# Altium footprint library Footprint_Module_for_Nokia_LCD_5110.PcbLib: 1 footprints
Each footprint in its own frame and in the unit in brackets; x right, y up, seen from the top. Pads: shape width x height; smd on the part's side, far side on the other; paste and mask are expansions set on the pad; w line width, h text height; cw(c..) or ccw(c..) is an arc to the next point about the centre after c.
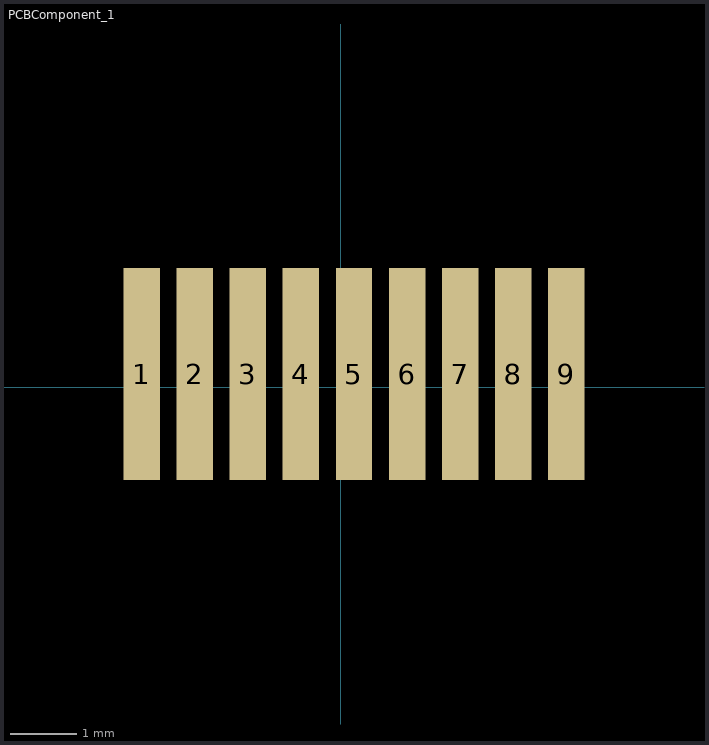
[diagram p0: the footprint, top view; thin cyan lines are the x and y axes]

## PCBComponent_1 [mm]
pads (9):
  rect 0.55x3.2 smd: 1(-3,0.2) 2(-2.2,0.2) 3(-1.4,0.2) 4(-0.6,0.2) 5(0.2,0.2) 6(1,0.2) 7(1.8,0.2) 8(2.6,0.2) 9(3.4,0.2)